# Altium footprint library W5500-io_V100.PcbLib: 9 footprints
Each footprint in its own frame and in the unit in brackets; x right, y up, seen from the top. Pads: shape width x height; smd on the part's side, far side on the other; paste and mask are expansions set on the pad; w line width, h text height; cw(c..) or ccw(c..) is an arc to the next point about the centre after c.
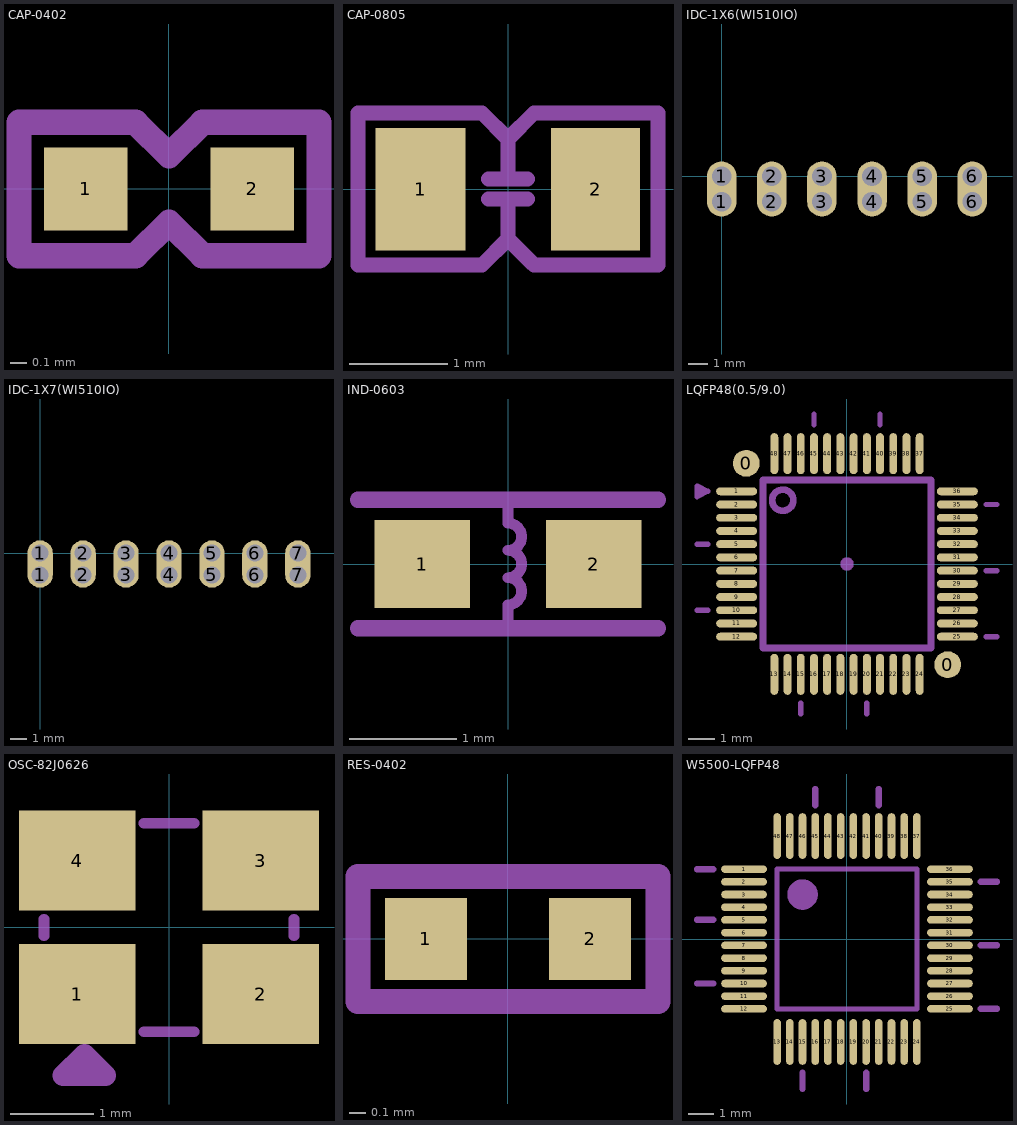
[diagram p0: the footprints below, top view; thin cyan lines are the x and y axes]

## CAP-0402 [mm]
pads (2):
  rect 0.5x0.5 smd: 1(-0.5,0) 2(0.5,0)
Mechanical 3:
  lines w0.152: -0.9,-0.4 -0.2,-0.4 0,-0.2 0.2,-0.4 0.9,-0.4 0.9,0.4 0.2,0.4 0,0.2 -0.2,0.4 -0.9,0.4 -0.9,-0.4
3D body "CAPC1005X06.STEP": height 0.6, standoff 0, extent -0.483,-0.254 0.517,0.246

## CAP-0805 [mil]
pads (2):
  rect 36x49 smd: 1(-35,0)
  rect 35.43x49 smd: 2(35,0)
Mechanical 3:
  lines w6: -7.87,-3.94 7.87,-3.94 ; -7.87,3.94 7.87,3.94 ; 0,-3.94 0,-20 ; 0,3.94 0,20 ; 0,-20 -10.45,-30.45 -60,-30.45 -60,30.45 -10.45,30.45 0,20 ; 0,-20 10,-30 10.45,-30.45 60,-30.45 60,30.45 10.45,30.45 0,20
3D body "0805 SMD Capacitor.STEP": height 30.79, standoff 0, extent -39.24,-24.5 39.5,24.71

## IDC-1X6(WI510IO) [mm]
pads (12):
  oval 1.5x2.5 hole 1 copper offset 0,0.5: 1(0,-1.3) 2(2.54,-1.3) 3(5.08,-1.3) 4(7.62,-1.3) 5(10.16,-1.3) 6(12.7,-1.3)
  oval 1.5x2.5 hole 1 copper offset 0,-0.5: 1(0,0) 2(2.54,0) 3(5.08,0) 4(7.62,0) 5(10.16,0) 6(12.7,0)

## IDC-1X7(WI510IO) [mm]
pads (14):
  oval 1.5x2.5 hole 1 copper offset 0,0.5: 1(0,-1.3) 2(2.54,-1.3) 3(5.08,-1.3) 4(7.62,-1.3) 5(10.16,-1.3) 6(12.7,-1.3) 7(15.24,-1.3)
  oval 1.5x2.5 hole 1 copper offset 0,-0.5: 1(0,0) 2(2.54,0) 3(5.08,0) 4(7.62,0) 5(10.16,0) 6(12.7,0) 7(15.24,0)

## IND-0603 [mm] "Inductor 0603(1608)"
pads (2):
  rect 0.89x0.82 smd: 1(-0.8,0) 2(0.8,0)
Mechanical 3:
  lines w0.1: 0,-0.6 0,-0.381 ccw(c0,-0.254) 0,-0.127 ccw(c0,0) 0,0.127 ccw(c0,0.254) 0,0.381 0,0.6
  lines w0.152: -1.4,-0.6 1.4,-0.6 ; -1.4,0.6 1.4,0.6
3D body "User Library-Chip InductorINDC1608X95N.STEP": height 0.95, standoff 0, extent -0.8,-0.4 0.8,0.4

## LQFP48(0.5/9.0) [mm]
pads (50):
  round 1.016 smd: 0(-3.81,3.81) 0(3.81,-3.81)
  oval 1.55x0.3 smd: 1(-4.175,2.75) 2(-4.175,2.25) 3(-4.175,1.75) 4(-4.175,1.25) 5(-4.175,0.75) 6(-4.175,0.25) 7(-4.175,-0.25) 8(-4.175,-0.75) 9(-4.175,-1.25) 10(-4.175,-1.75) 11(-4.175,-2.25) 12(-4.175,-2.75) 25(4.175,-2.75) 26(4.175,-2.25) 27(4.175,-1.75) 28(4.175,-1.25) 29(4.175,-0.75) 30(4.175,-0.25) 31(4.175,0.25) 32(4.175,0.75) 33(4.175,1.25) 34(4.175,1.75) 35(4.175,2.25) 36(4.175,2.75)
  oval 0.3x1.55 smd: 13(-2.75,-4.175) 14(-2.25,-4.175) 15(-1.75,-4.175) 16(-1.25,-4.175) 17(-0.75,-4.175) 18(-0.25,-4.175) 19(0.25,-4.175) 20(0.75,-4.175) 21(1.25,-4.175) 22(1.75,-4.175) 23(2.25,-4.175) 24(2.75,-4.175) 37(2.75,4.175) 38(2.25,4.175) 39(1.75,4.175) 40(1.25,4.175) 41(0.75,4.175) 42(0.25,4.175) 43(-0.25,4.175) 44(-0.75,4.175) 45(-1.25,4.175) 46(-1.75,4.175) 47(-2.25,4.175) 48(-2.75,4.175)
Mechanical 3:
  circle w0.254: c-2.432,2.413 r0.4
  circle w0.254: c0,0 r0.127
  lines w0.203: -5.675,-1.75 -5.275,-1.75 ; -5.675,0.75 -5.275,0.75 ; -5.675,2.75 -5.275,2.75 ; -1.75,-5.675 -1.75,-5.275 ; -1.25,5.275 -1.25,5.675 ; 0.75,-5.675 0.75,-5.275 ; 1.25,5.275 1.25,5.675 ; 5.275,-2.75 5.675,-2.75 ; 5.275,-0.25 5.675,-0.25 ; 5.275,2.25 5.675,2.25 ; -5.275,2.75 -5.675,2.55 -5.675,2.95 -5.275,2.75
  lines w0.254: -3.175,-3.175 -3.175,3.175 3.175,3.175 3.175,-3.175 -3.175,-3.175
3D body "User Library-lqfp48-1.STEP": height 1.5, standoff 0.02, extent -4.5,-4.5 4.5,4.5

## OSC-82J0626 [mm]
pads (4):
  rect 1.4x1.2 smd: 1(-1.1,-0.8) 2(1.1,-0.8) 3(1.1,0.8) 4(-1.1,0.8)
Mechanical 3:
  lines w0.127: -1.5,-0.1 -1.5,0.1 ; -0.3,-1.25 0.3,-1.25 ; -0.3,1.25 0.3,1.25 ; 1.5,-0.1 1.5,0.1
  lines w0.254: -1.27,-1.778 -0.762,-1.778 -1.016,-1.524 -1.27,-1.778
3D body "User Library-ABRACON_ASE.STEP": height 1.06, standoff 0.02, extent -1.7,-1.35 1.7,1.35

## RES-0402 [mm]
pads (2):
  rect 0.5x0.5 smd: 1(-0.5,0) 2(0.5,0)
Mechanical 3:
  lines w0.152: -0.914,-0.381 0.914,-0.381 0.914,0.381 -0.914,0.381 -0.914,-0.381
3D body "RES_C1005X04N.STEP": height 0.35, standoff 0, extent -0.5,-0.254 0.5,0.246

## W5500-LQFP48 [mm]
pads (48):
  oval 1.8x0.3 smd: 1(-4.05,2.75) 2(-4.05,2.25) 3(-4.05,1.75) 4(-4.05,1.25) 5(-4.05,0.75) 6(-4.05,0.25) 7(-4.05,-0.25) 8(-4.05,-0.75) 9(-4.05,-1.25) 10(-4.05,-1.75) 11(-4.05,-2.25) 12(-4.05,-2.75) 25(4.05,-2.75) 26(4.05,-2.25) 27(4.05,-1.75) 28(4.05,-1.25) 29(4.05,-0.75) 30(4.05,-0.25) 31(4.05,0.25) 32(4.05,0.75) 33(4.05,1.25) 34(4.05,1.75) 35(4.05,2.25) 36(4.05,2.75)
  oval 0.3x1.8 smd: 13(-2.75,-4.05) 14(-2.25,-4.05) 15(-1.75,-4.05) 16(-1.25,-4.05) 17(-0.75,-4.05) 18(-0.25,-4.05) 19(0.25,-4.05) 20(0.75,-4.05) 21(1.25,-4.05) 22(1.75,-4.05) 23(2.25,-4.05) 24(2.75,-4.05) 37(2.75,4.05) 38(2.25,4.05) 39(1.75,4.05) 40(1.25,4.05) 41(0.75,4.05) 42(0.25,4.05) 43(-0.25,4.05) 44(-0.75,4.05) 45(-1.25,4.05) 46(-1.75,4.05) 47(-2.25,4.05) 48(-2.75,4.05)
Mechanical 3:
  circle w0.6: c-1.75,1.75 r0.3
  lines w0.2: -2.75,-2.75 2.75,-2.75 2.75,2.75 -2.75,2.75 -2.75,-2.75
  lines w0.254: -5.901,-1.75 -5.266,-1.75 ; -5.901,0.75 -5.266,0.75 ; -5.901,2.75 -5.266,2.75 ; -1.75,-5.901 -1.75,-5.266 ; -1.25,5.266 -1.25,5.901 ; 0.75,-5.901 0.75,-5.266 ; 1.25,5.266 1.25,5.901 ; 5.266,-2.75 5.901,-2.75 ; 5.266,-0.25 5.901,-0.25 ; 5.266,2.25 5.901,2.25
  text "WIZnet" at 0.508,2.286 h0.91
  text "W5500" at -0.762,2.159 h0.91
3D body "W5500.stp": height 1.65, standoff 0, extent -4.5,-4.504 4.5,4.496